# Altium footprint library SOIC127P600X175-14N-12-V.PcbLib: 1 footprints
Each footprint in its own frame and in the unit in brackets; x right, y up, seen from the top. Pads: shape width x height; smd on the part's side, far side on the other; paste and mask are expansions set on the pad; w line width, h text height; cw(c..) or ccw(c..) is an arc to the next point about the centre after c.
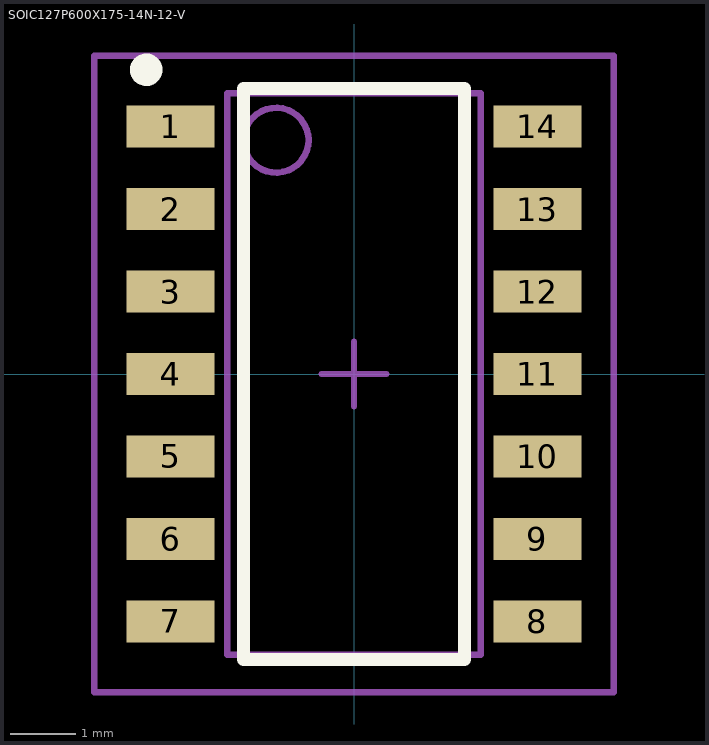
[diagram p0: the footprint, top view; thin cyan lines are the x and y axes]

## SOIC127P600X175-14N-12-V [mm] "SOIC,1.27mm,pitch;14 pin,3.90mm W X 8.65mm L X 1.75mm H body"
height 1.75
pads (14):
  rect 1.35x0.65 smd paste+0 mask+0: 1(-2.825,3.81) 2(-2.825,2.54) 3(-2.825,1.27) 4(-2.825,0) 5(-2.825,-1.27) 6(-2.825,-2.54) 7(-2.825,-3.81) 8(2.825,-3.81) 9(2.825,-2.54) 10(2.825,-1.27) 11(2.825,0) 12(2.825,1.27) 13(2.825,2.54) 14(2.825,3.81)
Top Overlay:
  circle w0.25: c-3.2,4.685 r0.125
  lines w0.2: -1.7,-4.4 -1.7,4.4 1.7,4.4 1.7,-4.4 -1.7,-4.4
M3 (ASY_Text_Top):
  text ".DESIGNATOR" at 0,0 h1.2
M13 (CMP_Body_OTL_Top):
  circle w0.1: c-1.2,3.6 r0.5
  lines w0.1: -1.95,-4.325 -1.95,4.325 1.95,4.325 1.95,-4.325 -1.95,-4.325
M15 (CMP_Courtyard_Top):
  lines w0.1: -0.5,0 0.5,0 ; 0,-0.5 0,0.5 ; -4,-4.9 4,-4.9 4,4.9 -4,4.9 -4,-4.9
3D body "PG-DSO-14-903.STEP": height 1.56, standoff 0, extent -3,-4.325 3,4.325